# EAGLE library part DF3-14 (library con-hirose)
Single row connector 2mm 14 way
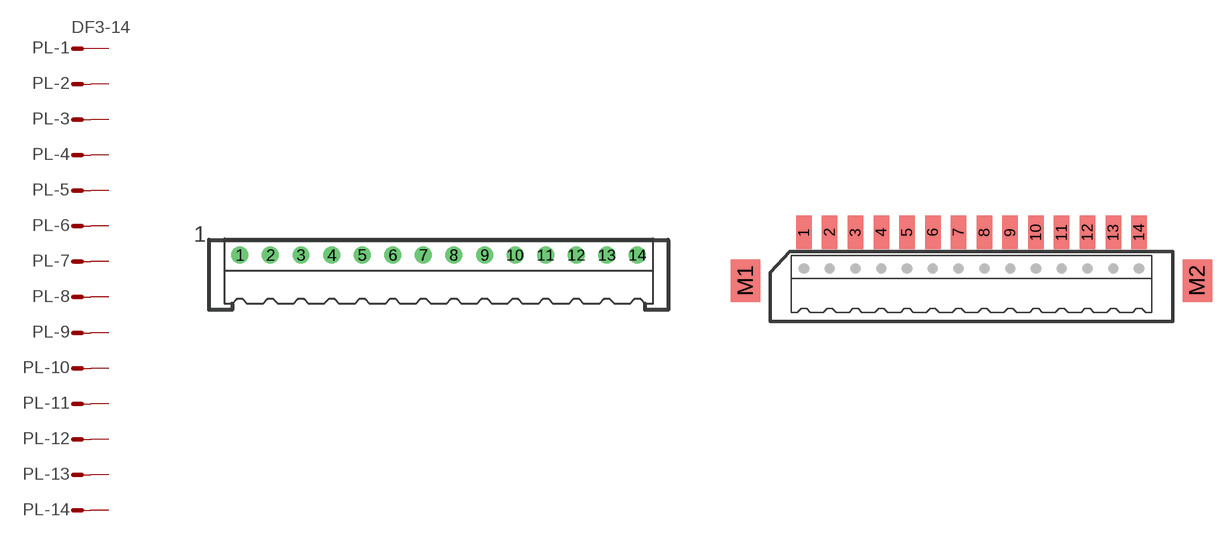
[diagram p17: symbol with the pads of DF3P-14; footprints DF3P-14, DF3DZ-14]

Designator prefix PL; gates -1=MV -2=M -3=M -4=M -5=M -6=M -7=M -8=M -9=M -10=M -11=M -12=M -13=M -14=M

## DF3-14P  [DF3P-14]
1  -1:S  pas
2  -2:S  pas
3  -3:S  pas
4  -4:S  pas
5  -5:S  pas
6  -6:S  pas
7  -7:S  pas
8  -8:S  pas
9  -9:S  pas
10  -10:S  pas
11  -11:S  pas
12  -12:S  pas
13  -13:S  pas
14  -14:S  pas

## DF3-14DZ  [DF3DZ-14]
Pads as for DF3P-14

## DF3-14R  [DF3R-14]
Pads as for DF3P-14

## Footprint DF3P-14 (pad centres in mm)
Single row connector 2mm 14 way
drill 0.6 round: 1 -13,1; 2 -11,1; 3 -9,1; 4 -7,1; 5 -5,1; 6 -3,1; 7 -1,1; 8 1,1; 9 3,1; 10 5,1; 11 7,1; 12 9,1; 13 11,1; 14 13,1

## Footprint DF3DZ-14 (pad centres in mm)
Single row SMT connector 2mm 14 way
smd 1.2 x 2.6: 1 -13,4.1; 2 -11,4.1; 3 -9,4.1; 4 -7,4.1; 5 -5,4.1; 6 -3,4.1; 7 -1,4.1; 8 1,4.1; 9 3,4.1; 10 5,4.1; 11 7,4.1; 12 9,4.1; 13 11,4.1; 14 13,4.1
smd 2.3 x 3.3: M1 -17.52,0.35; M2 17.52,0.35

## Footprint DF3R-14 (pad centres in mm)
Single row connector 2mm 14 way
drill 0.6 round: 1 -13,1.8; 2 -11,1.8; 3 -9,1.8; 4 -7,1.8; 5 -5,1.8; 6 -3,1.8; 7 -1,1.8; 8 1,1.8; 9 3,1.8; 10 5,1.8; 11 7,1.8; 12 9,1.8; 13 11,1.8; 14 13,1.8